# Altium schematic symbol library RBM_SCH-Lib_11-Mar-19.SchLib: 26 symbols
Pins are listed as number, name and electrical type; pins without a type are passive.

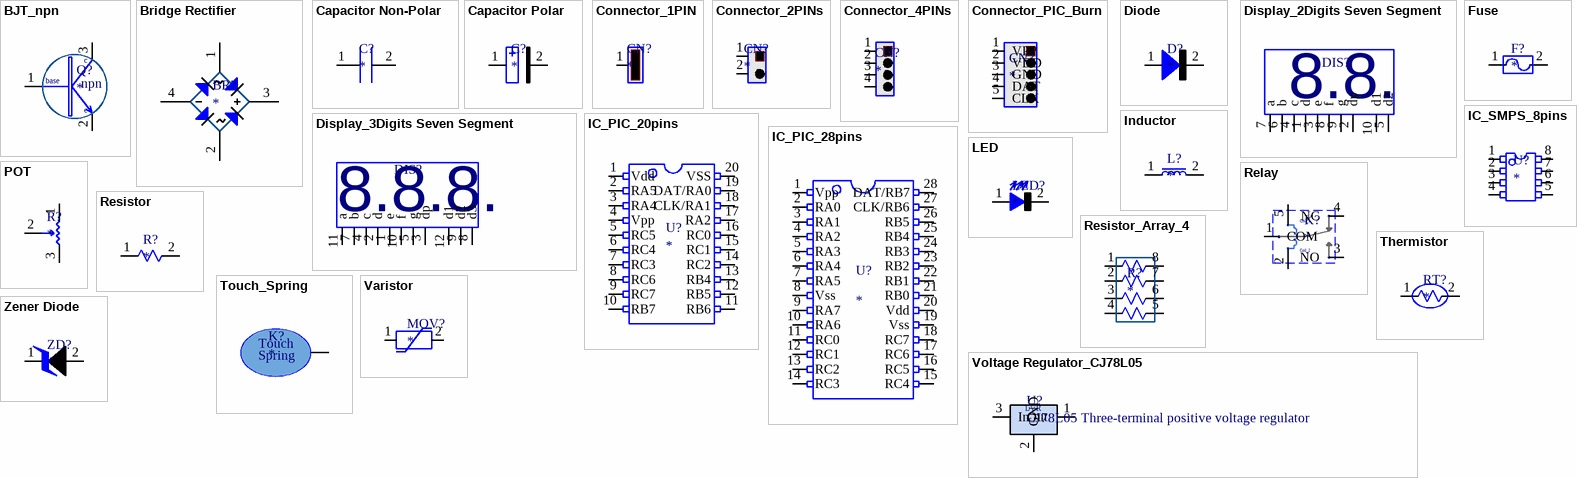
[diagram p0: symbols BJT_npn to Zener Diode]

## BJT_npn
designator Q?
footprint Q_SOT-23-3_NPN_BC847 (SOT23, 3-Leads, Body 2.90x2.45mm, Pitch 0.95mm, IPC Medium Density)
pins: 1 Base, 2 Emitter, 3 Collector
text: c; base; npn; e

## Bridge Rectifier
designator BR?
footprint BR_SMD_ABS10
footprint BR_SMD_MB6S
pins: 1 AC, 2 AC, 3 VCC, 4 vss

## Capacitor Non-Polar
designator C?
footprint C_0805
footprint C_X1_P10
footprint C_X2_18X10X15.8_P15
footprint C_X2_26X12X21.5_P22.5
pins: 1, 2

## Capacitor Polar
designator C?
footprint C_5x12_P2.54
footprint C_8x12_P3.556
footprint C_8x13_P3.556
footprint C_SMD_4X5.4_CK-10uF-16V (Aluminum Electrolytic Capacitor, Body 4.30x4.30x5.80mm, IPC Low Density)
footprint C_SMD_5X5.4_CK-47uF-16V (Aluminum Electrolytic Capacitor, Body 5.30x5.30x5.80mm, IPC Low Density)
footprint C_SMD_6.3X5.4_CK-100uF-16V (Aluminum Electrolytic Capacitor, Body 6.60x6.70x6.00mm, IPC Low Density)
pins: 1 vdd, 2 vss

## Connector_1PIN
designator CN?
footprint CN_4.8mm PCB Tab Terminal (Straight)
pins: 1

## Connector_2PINs
designator CN?
footprint CN_B2B-XH-A_RED
footprint CN_B2B-XH-A_WHITE
footprint CN_S2B-XH-A_or_A2501-WR02
pins: 1, 2

## Connector_4PINs
designator CN?
footprint CN_BM04B-GHS-TBT_180_DIP (Top Entry Header 1.25mm pitch 1X4pin  180° long)
footprint CN_SM04B-GHS-SMT
pins: 1, 2, 3, 4

## Connector_PIC_Burn
designator CN?
footprint CN_PIC_MCU_Debugger
pins: 1 VPP, 2 VDD, 3 GND, 4 DAT, 5 CLK

## Diode
designator D?
footprint D_ES1J-DO-214AC (Molded Diode, 2-Leads, Body 4.29x2.69mm, IPC Medium Density)
pins: 1 vdd, 2 vss

## Display_2Digits Seven Segment
designator DIS?  (value not drawn)
2 Digit Seven Segment Display CA
footprint Dis_56" 2 digit Display
pins: 1 d, 2 dp, 3 e, 4 c, 5 d2, 6 b, 7 a, 8 f, 9 g, 10 d1
text: 8.8.

## Display_3Digits Seven Segment
designator DIS?  (value not drawn)
3 Digit Seven Segment Display CA
footprint DIS_56" 3 digit Display
pins: 1 e, 2 d, 3 dp, 4 c, 5 g, 7 b, 8 d3, 9 d2, 10 f, 11 a, 12 d1
text: 8.8.8.

## Fuse
designator F?
footprint F_4x8_P5
pins: 1, 2

## IC_PIC_20pins
designator U?
footprint U_PIC16F1XXXX_20pin_SOIC (SOIC, 20-Leads, Body 12.80x7.50mm, Pitch 1.27mm, IPC Medium Density)
footprint U_PIC16F15344_SSOP (SOP, 20-Leads, Body 7.20x5.30mm, Pitch 0.65mm, IPC Medium Density)
pins: 1 Vdd, 2 RA5, 3 RA4, 4 Vpp, 5 RC5, 6 RC4, 7 RC3, 8 RC6, 9 RC7, 10 RB7, 11 RB6, 12 RB5, 13 RB4, 14 RC2, 15 RC1, 16 RC0, 17 RA2, 18 CLK/RA1, 19 DAT/RA0, 20 VSS

## IC_PIC_28pins
designator U?
footprint U_PIC16F18856_SSOP (SOP, 28-Leads, Body 10.20x5.30mm, Pitch 0.65mm, Thermal Pad 8.00x4.00mm, IPC Medium Density)
pins: 1 Vpp, 2 RA0, 3 RA1, 4 RA2, 5 RA3, 6 RA4, 7 RA5, 8 Vss, 9 RA7, 10 RA6, 11 RC0, 12 RC1, 13 RC2, 14 RC3, 15 RC4, 16 RC5, 17 RC6, 18 RC7, 19 Vss, 20 Vdd, 21 RB0, 22 RB1, 23 RB2, 24 RB3, 25 RB4, 26 RB5, 27 CLK/RB6, 28 DAT/RB7

## IC_SMPS_8pins
designator U?
footprint U_DK912_TH
pins: 1, 2, 3, 4, 5, 6, 7, 8

## Inductor
designator L?
footprint L_6x10_P3
pins: 1, 2

## LED
designator LED?
footprint LED_3x5_P2.5
pins: 1 vdd, 2 vss

## POT
designator R?
footprint R_POT
pins: 1 VDD, 2 POT, 3 VSS
text: Var

## Relay
designator K?
footprint K_15ARelay_AZ943-1CH
pins: 1 COM, 2 COIL2, 3 NO, 4 NC, 5 COIL1
text: Coil_1; Coil_2

## Resistor
designator R?
footprint R_0805
footprint R_1206
footprint R_2512 (Chip Resistor, 2-Leads, Body 6.35x3.10mm, IPC Medium Density)
footprint R_Axial_P13 (220 ohm 2W 1%)
footprint R_Axial_P10 (Axial 680kO 1/4W 1%)
footprint R_Axial_P16 (220 ohm 2W 1%)
pins: 1, 2

## Resistor_Array_4
designator R?
footprint R_0603_4_array (Chip Array, Concave, 8-Leads, Pitch 0.80mm,  Body 3.20x1.60mm,  IPC Medium Density)
pins: 1, 2, 3, 4, 5, 6, 7, 8

## Thermistor
designator RT?
footprint RT_5D-5-(B)
pins: 1, 2

## Touch_Spring
designator K?
footprint T_TouchSpring-15H-8W-0.5C
pins: 1
text: Touch; Spring

## Varistor
designator MOV?
footprint MOV_10D471
pins: 1, 2

## Voltage Regulator_CJ78L05
designator U?, comment CJ78L05 Three-terminal positive voltage regulator
footprint U_CJ78L05_SOT89 (SOT89, 3-Leads, Body 4.50x2.45mm, Pitch 1.50mm, Lead Span 4.1mm - Reverse Pinning, IPC Medium Density)
pins: 1 Out, 2 GND, 3 In
text: LVR

## Zener Diode
designator ZD?
footprint ZD_ZM4742A LL-41
pins: 1 VCC, 2 GND